# Altium schematic symbol library Infineon Transistor & Diode.SchLib: 376 symbols (part 5 of 10)
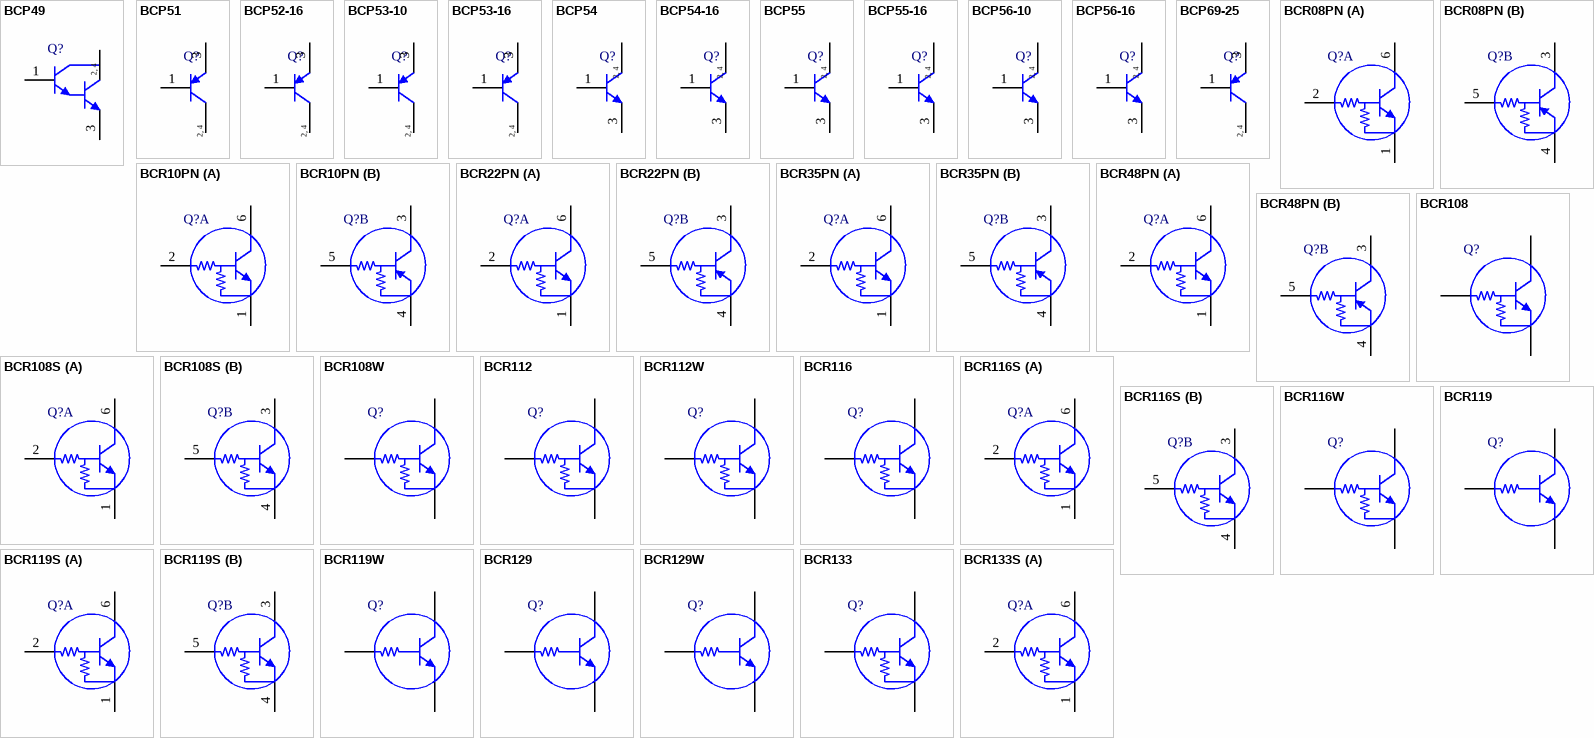
[diagram p14: symbols BCP49 to BCR133S]

## BCR22PN
designator Q?
NPN / PNP Silicon Digital Transistor Array, 50 V VCEO, 100 mA IC, SOT363, Reel, Green; Manufacturer: Infineon; PartNumber: BCR22PN; fT (typ): 130 MHz; Green: TRUE; hFE (min): 50; IC (max): 100 mA; ICBO (max): 100 nA; Ptot (max): 250 mW; R1 (typ): 22 kOhm; VCBO (max): 50 V; VEBO (max): 10 V; Vi (off) (max): 1.5 100uA / 5V; Vi (on) (max): 2.5 V; Vi (on) (min): 1 2mA / 0.3V; PackageReference: SOT363; PackageDescription: 6-Pin Small Outline Transistor Package, 1.25 x 2 mm Body; Supplier 1: Mouser; Supplier Part Number 1: N/A; Halogen-free: TRUE; Packing: Reel; Polarity: NPN/PNP; R2: 22 kOhm; VCEO (max): 50 V; Mounting Technology: Surface Mount; ComponentLink1Description: Manufacturer URL; ComponentLink1URL: http://www.infineon.com/; ComponentLink2Description: Datasheet; ComponentLink2URL: http://www.infineon.com/dgdl/bcr22pn.pdf?folderId=db3a30431428a37301144053a52002e2&fileId=db3a30431428a3730114406a036a02fe; ComponentLink3Description: Package Specification; ComponentLink3URL: http://www.infineon.com/dgdl/SOT363-Package_Overview.pdf?folderId=db3a30431936bc4b01195360bd8f3cdc&fileId=db3a30431936bc4b0119536b62bf3cf5
footprint INF-SOT363_V (SOT23, 6-Leads, Body 2x1.25 mm, Pitch 0.65 mm)
part A pins: 1 E1, 2 B1, 6 C1
part B pins: 3 C2, 4 E2, 5 B2

## BCR35PN
designator Q?
NPN / PNP Silicon Digital Transistor Array, 50 V VCEO, 100 mA IC, SOT363, Reel, Green; Manufacturer: Infineon; PartNumber: BCR35PN; fT (typ): 150 MHz; Green: TRUE; hFE (min): 70; IC (max): 100 mA; ICBO (max): 100 nA; Ptot (max): 250 mW; R1 (typ): 10 kOhm; R2: 47 kOhm; VCBO (max): 50 V; VEBO (max): 6 V; Vi (off) (max): 1 100uA / 5V; Vi (on) (max): 1.4 V; Vi (on) (min): 0.5 2mA / 0.3V; PackageReference: SOT363; PackageDescription: 6-Pin Small Outline Transistor Package, 1.25 x 2 mm Body; Supplier 1: Mouser; Supplier Part Number 1: N/A; Halogen-free: TRUE; Packing: Reel; Polarity: NPN/PNP; VCEO (max): 50 V; Mounting Technology: Surface Mount; ComponentLink1Description: Manufacturer URL; ComponentLink1URL: http://www.infineon.com/; ComponentLink2Description: Datasheet; ComponentLink2URL: http://www.infineon.com/dgdl/bcr35pn.pdf?folderId=db3a30431428a37301144053a52002e2&fileId=db3a30431428a3730114406b0def02ff; ComponentLink3Description: Package Specification; ComponentLink3URL: http://www.infineon.com/dgdl/SOT363-Package_Overview.pdf?folderId=db3a30431936bc4b01195360bd8f3cdc&fileId=db3a30431936bc4b0119536b62bf3cf5
footprint INF-SOT363_V (SOT23, 6-Leads, Body 2x1.25 mm, Pitch 0.65 mm)
part A pins: 1 E1, 2 B1, 6 C1
part B pins: 3 C2, 4 E2, 5 B2

## BCR48PN
designator Q?
NPN / PNP Silicon Digital Transistor Array, 50 V VCEO, 70 / 100 mA IC, SOT363, Reel, Green; Manufacturer: Infineon; PartNumber: BCR48PN; fT (typ): 100 MHz; Green: TRUE; hFE (min): 70; IC (max): 70 mA; 100 mA; ICBO (max): 100 nA; Ptot (max): 250 mW; R1 (typ): 47 kOhm; 2.2 kOhm; R2: 47 kOhm; 47 kOhm; VCBO (max): 50 V; VEBO (max): 10 V; 5 V; Vi (off) (max): 1.5 100uA / 5V; Vi (on) (max): 1.1 V; Vi (on) (min): 0.5 2mA / 0.3V; PackageReference: SOT363; PackageDescription: 6-Pin Small Outline Transistor Package, 1.25 x 2 mm Body; Supplier 1: Mouser; Supplier Part Number 1: N/A; Halogen-free: TRUE; Packing: Reel; Polarity: NPN/PNP; VCEO (max): 50 V; Mounting Technology: Surface Mount; ComponentLink1Description: Manufacturer URL; ComponentLink1URL: http://www.infineon.com/; ComponentLink2Description: Datasheet; ComponentLink2URL: http://www.infineon.com/dgdl/bcr48pn.pdf?folderId=db3a30431428a37301144053a52002e2&fileId=db3a30431428a3730114406c1ce60300; ComponentLink3Description: Package Specification; ComponentLink3URL: http://www.infineon.com/dgdl/SOT363-Package_Overview.pdf?folderId=db3a30431936bc4b01195360bd8f3cdc&fileId=db3a30431936bc4b0119536b62bf3cf5
footprint INF-SOT363_V (SOT23, 6-Leads, Body 2x1.25 mm, Pitch 0.65 mm)
part A pins: 1 E1, 2 B1, 6 C1
part B pins: 3 C2, 4 E2, 5 B2

## BCR108
designator Q?
NPN Silicon Digital Transistor, 50 V VCEO, 100 mA IC, SOT23, Reel, Green; Manufacturer: Infineon; PartNumber: BCR108; fT (typ): 170 MHz; Green: TRUE; hFE (min): 70; IC (max): 100 mA; ICBO (max): 100 nA; Ptot (max): 200 mW; R1 (typ): 2.2 kOhm; R2: 47 kOhm; VCBO (max): 50 V; VEBO (max): 5 V; Vi (off) (max): 0.8 100uA / 5V; Vi (on) (max): 1.1 V; Vi (on) (min): 0.5 2mA / 0.3V; PackageVersion: Apr-08; PackageReference: SOT23; PackageDescription: 3-Pin Small Outline Transistor Package, 1.3 x 2.9 mm Body, 0.95 mm Pitch; Supplier 1: Mouser; Supplier Part Number 1: N/A; Packing: Reel; Polarity: NPN; VCEO (max): 50 V; Mounting Technology: Surface Mount; ComponentLink1Description: Manufacturer URL; ComponentLink1URL: http://www.infineon.com/; ComponentLink2Description: Datasheet; ComponentLink2URL: http://www.infineon.com/dgdl/bcr108series.pdf?folderId=db3a30431400ef68011406f3ddb1012e&fileId=db3a30431428a37301143a27e5a401ce; ComponentLink3Description: Package Specification; ComponentLink3URL: http://www.infineon.com/dgdl/SOT23-Package_Overview.pdf?folderId=db3a30431936bc4b0119532290053c66&fileId=db3a30431936bc4b0119533468123c85
footprint INF-SOT23_N (SOT23, 3-Leads, Body 2.9x1.3 mm, Pitch 0.95 mm, IPC Medium Density)
footprint INF-SOT23_L (SOT23, 3-Leads, Body 2.9x1.3 mm, Pitch 0.95 mm, IPC High Density)
footprint INF-SOT23_M (SOT23, 3-Leads, Body 2.9x1.3 mm, Pitch 0.95 mm, IPC Low Density)
pins: 1 B, 2 E, 3 C

## BCR108S
designator Q?
NPN Silicon Digital Transistor, 50 V VCEO, 100 mA IC, SOT363, Reel, Green; Manufacturer: Infineon; PartNumber: BCR108S; fT (typ): 170 MHz; Green: TRUE; hFE (min): 70; IC (max): 100 mA; ICBO (max): 100 nA; Ptot (max): 250 mW; R1 (typ): 2.2 kOhm; R2: 47 kOhm; VCBO (max): 50 V; VEBO (max): 5 V; Vi (off) (max): 0.8 100uA / 5V; Vi (on) (max): 1.1 V; Vi (on) (min): 0.5 2mA / 0.3V; PackageReference: SOT363; PackageDescription: 6-Pin Small Outline Transistor Package, 1.25 x 2 mm Body; Supplier 1: Mouser; Supplier Part Number 1: N/A; Halogen-free: TRUE; Packing: Reel; Polarity: NPN; VCEO (max): 50 V; Mounting Technology: Surface Mount; ComponentLink1Description: Manufacturer URL; ComponentLink1URL: http://www.infineon.com/; ComponentLink2Description: Datasheet; ComponentLink2URL: http://www.infineon.com/dgdl/bcr108series.pdf?folderId=db3a30431428a37301144053a52002e2&fileId=db3a30431428a37301144054398602e5; ComponentLink3Description: Package Specification; ComponentLink3URL: http://www.infineon.com/dgdl/SOT363-Package_Overview.pdf?folderId=db3a30431936bc4b01195360bd8f3cdc&fileId=db3a30431936bc4b0119536b62bf3cf5
footprint INF-SOT363_V (SOT23, 6-Leads, Body 2x1.25 mm, Pitch 0.65 mm)
part A pins: 1 E1, 2 B1, 6 C1
part B pins: 3 C2, 4 E2, 5 B2

## BCR108W
designator Q?
NPN Silicon Digital Transistor, 50 V VCEO, 100 mA IC, SOT323, Reel, Green; Manufacturer: Infineon; PartNumber: BCR108W; fT (typ): 170 MHz; Green: TRUE; hFE (min): 70; IC (max): 100 mA; ICBO (max): 100 nA; Ptot (max): 250 mW; R1 (typ): 2.2 kOhm; R2: 47 kOhm; VCBO (max): 50 V; VEBO (max): 5 V; Vi (off) (max): 0.8 100uA / 5V; Vi (on) (max): 1.1 V; Vi (on) (min): 0.5 2mA / 0.3V; PackageReference: SOT323; PackageDescription: 3-Pin Small Outline Transistor Package, 1.25 x 2 mm Body, 0.65 mm Pitch; Supplier 1: Mouser; Supplier Part Number 1: N/A; Halogen-free: TRUE; Packing: Reel; Polarity: NPN; VCEO (max): 50 V; Mounting Technology: Surface Mount; ComponentLink1Description: Manufacturer URL; ComponentLink1URL: http://www.infineon.com/; ComponentLink2Description: Datasheet; ComponentLink2URL: http://www.infineon.com/dgdl/bcr108series.pdf?folderId=db3a30431400ef68011406f3ddb1012e&fileId=db3a30431428a37301143a27e5a401ce; ComponentLink3Description: Package Specification; ComponentLink3URL: http://www.infineon.com/dgdl/SOT323-Package_Overview.pdf?folderId=db3a30431936bc4b0119533e1dcb3c92&fileId=db3a30431936bc4b011953495f283cb1
footprint INF-SOT323_N (SOT23, 3-Leads, Body 2x1.25 mm, Pitch 0.65 mm, IPC Medium Density)
footprint INF-SOT323_L (SOT23, 3-Leads, Body 2x1.25 mm, Pitch 0.65 mm, IPC High Density)
footprint INF-SOT323_M (SOT23, 3-Leads, Body 2x1.25 mm, Pitch 0.65 mm, IPC Low Density)
pins: 1 B, 2 E, 3 C

## BCR112
designator Q?
NPN Silicon Digital Transistor, 50 V VCEO, 100 mA IC, SOT23, Reel, Green; Manufacturer: Infineon; PartNumber: BCR112; fT (typ): 140 MHz; Green: TRUE; hFE (min): 20; IC (max): 100 mA; ICBO (max): 100 nA; Ptot (max): 200 mW; R1 (typ): 4.7 kOhm; VCBO (max): 50 V; VEBO (max): 10 V; Vi (off) (max): 1.5 100uA / 5V; Vi (on) (max): 2.5 V; Vi (on) (min): 1 2mA / 0.3V; PackageVersion: Apr-08; PackageReference: SOT23; PackageDescription: 3-Pin Small Outline Transistor Package, 1.3 x 2.9 mm Body, 0.95 mm Pitch; Supplier 1: Mouser; Supplier Part Number 1: N/A; Packing: Reel; Polarity: NPN; R2: 4.7 kOhm; VCEO (max): 50 V; Mounting Technology: Surface Mount; ComponentLink1Description: Manufacturer URL; ComponentLink1URL: http://www.infineon.com/; ComponentLink2Description: Datasheet; ComponentLink2URL: http://www.infineon.com/dgdl/bcr112series.pdf?folderId=db3a30431400ef68011406f3ddb1012e&fileId=db3a30431428a37301143a34902e01d0; ComponentLink3Description: Package Specification; ComponentLink3URL: http://www.infineon.com/dgdl/SOT23-Package_Overview.pdf?folderId=db3a30431936bc4b0119532290053c66&fileId=db3a30431936bc4b0119533468123c85
footprint INF-SOT23_N (SOT23, 3-Leads, Body 2.9x1.3 mm, Pitch 0.95 mm, IPC Medium Density)
footprint INF-SOT23_L (SOT23, 3-Leads, Body 2.9x1.3 mm, Pitch 0.95 mm, IPC High Density)
footprint INF-SOT23_M (SOT23, 3-Leads, Body 2.9x1.3 mm, Pitch 0.95 mm, IPC Low Density)
pins: 1 B, 2 E, 3 C

## BCR112W
designator Q?
NPN Silicon Digital Transistor, 50 V VCEO, 100 mA IC, SOT323, Reel, Green; Manufacturer: Infineon; PartNumber: BCR112W; fT (typ): 140 MHz; Green: TRUE; hFE (min): 20; IC (max): 100 mA; ICBO (max): 100 nA; Ptot (max): 250 mW; R1 (typ): 4.7 kOhm; VCBO (max): 50 V; VEBO (max): 10 V; Vi (off) (max): 1.5 100uA / 5V; Vi (on) (max): 2.5 V; Vi (on) (min): 1 2mA / 0.3V; PackageReference: SOT323; PackageDescription: 3-Pin Small Outline Transistor Package, 1.25 x 2 mm Body, 0.65 mm Pitch; Supplier 1: Mouser; Supplier Part Number 1: N/A; Halogen-free: TRUE; Packing: Reel; Polarity: NPN; R2: 4.7 kOhm; VCEO (max): 50 V; Mounting Technology: Surface Mount; ComponentLink1Description: Manufacturer URL; ComponentLink1URL: http://www.infineon.com/; ComponentLink2Description: Datasheet; ComponentLink2URL: http://www.infineon.com/dgdl/bcr112series.pdf?folderId=db3a30431400ef68011406f3ddb1012e&fileId=db3a30431428a37301143a34902e01d0; ComponentLink3Description: Package Specification; ComponentLink3URL: http://www.infineon.com/dgdl/SOT323-Package_Overview.pdf?folderId=db3a30431936bc4b0119533e1dcb3c92&fileId=db3a30431936bc4b011953495f283cb1
footprint INF-SOT323_N (SOT23, 3-Leads, Body 2x1.25 mm, Pitch 0.65 mm, IPC Medium Density)
footprint INF-SOT323_L (SOT23, 3-Leads, Body 2x1.25 mm, Pitch 0.65 mm, IPC High Density)
footprint INF-SOT323_M (SOT23, 3-Leads, Body 2x1.25 mm, Pitch 0.65 mm, IPC Low Density)
pins: 1 B, 2 E, 3 C

## BCR116
designator Q?
NPN Silicon Digital Transistor, 50 V VCEO, 100 mA IC, SOT23, Reel, Green; Manufacturer: Infineon; PartNumber: BCR116; fT (typ): 150 MHz; Green: TRUE; hFE (min): 70; IC (max): 100 mA; ICBO (max): 100 nA; Ptot (max): 200 mW; R1 (typ): 4.7 kOhm; R2: 47 kOhm; VCBO (max): 50 V; VEBO (max): 5 V; Vi (off) (max): 0.8 100uA / 5V; Vi (on) (max): 1.4 V; Vi (on) (min): 0.5 2mA / 0.3V; PackageVersion: Apr-08; PackageReference: SOT23; PackageDescription: 3-Pin Small Outline Transistor Package, 1.3 x 2.9 mm Body, 0.95 mm Pitch; Supplier 1: Mouser; Supplier Part Number 1: N/A; Packing: Reel; Polarity: NPN; VCEO (max): 50 V; Mounting Technology: Surface Mount; ComponentLink1Description: Manufacturer URL; ComponentLink1URL: http://www.infineon.com/; ComponentLink2Description: Datasheet; ComponentLink2URL: http://www.infineon.com/dgdl/bcr116series.pdf?folderId=db3a30431400ef68011406f3ddb1012e&fileId=db3a30431428a37301143f60ae880285; ComponentLink3Description: Package Specification; ComponentLink3URL: http://www.infineon.com/dgdl/SOT23-Package_Overview.pdf?folderId=db3a30431936bc4b0119532290053c66&fileId=db3a30431936bc4b0119533468123c85
footprint INF-SOT23_N (SOT23, 3-Leads, Body 2.9x1.3 mm, Pitch 0.95 mm, IPC Medium Density)
footprint INF-SOT23_L (SOT23, 3-Leads, Body 2.9x1.3 mm, Pitch 0.95 mm, IPC High Density)
footprint INF-SOT23_M (SOT23, 3-Leads, Body 2.9x1.3 mm, Pitch 0.95 mm, IPC Low Density)
pins: 1 B, 2 E, 3 C

## BCR116S
designator Q?
NPN Silicon Digital Transistor, 50 V VCEO, 100 mA IC, SOT363, Reel, Green; Manufacturer: Infineon; PartNumber: BCR116S; fT (typ): 150 MHz; Green: TRUE; hFE (min): 70; IC (max): 100 mA; ICBO (max): 100 nA; Ptot (max): 250 mW; R1 (typ): 4.7 kOhm; R2: 47 kOhm; VCBO (max): 50 V; VEBO (max): 5 V; Vi (off) (max): 0.8 100uA / 5V; Vi (on) (max): 1.4 V; Vi (on) (min): 0.5 2mA / 0.3V; PackageReference: SOT363; PackageDescription: 6-Pin Small Outline Transistor Package, 1.25 x 2 mm Body; Supplier 1: Mouser; Supplier Part Number 1: N/A; Halogen-free: TRUE; Packing: Reel; Polarity: NPN; VCEO (max): 50 V; Mounting Technology: Surface Mount; ComponentLink1Description: Manufacturer URL; ComponentLink1URL: http://www.infineon.com/; ComponentLink2Description: Datasheet; ComponentLink2URL: http://www.infineon.com/dgdl/bcr116series.pdf?folderId=db3a30431428a37301144053a52002e2&fileId=db3a30431428a37301144055ee0602f0; ComponentLink3Description: Package Specification; ComponentLink3URL: http://www.infineon.com/dgdl/SOT363-Package_Overview.pdf?folderId=db3a30431936bc4b01195360bd8f3cdc&fileId=db3a30431936bc4b0119536b62bf3cf5
footprint INF-SOT363_V (SOT23, 6-Leads, Body 2x1.25 mm, Pitch 0.65 mm)
part A pins: 1 E1, 2 B1, 6 C1
part B pins: 3 C2, 4 E2, 5 B2

## BCR116W
designator Q?
NPN Silicon Digital Transistor, 50 V VCEO, 100 mA IC, SOT323, Reel, Green; Manufacturer: Infineon; PartNumber: BCR116W; fT (typ): 150 MHz; Green: TRUE; hFE (min): 70; IC (max): 100 mA; ICBO (max): 100 nA; Ptot (max): 250 mW; R1 (typ): 4.7 kOhm; R2: 47 kOhm; VCBO (max): 50 V; VEBO (max): 5 V; Vi (off) (max): 0.8 100uA / 5V; Vi (on) (max): 1.4 V; Vi (on) (min): 0.5 2mA / 0.3V; PackageReference: SOT323; PackageDescription: 3-Pin Small Outline Transistor Package, 1.25 x 2 mm Body, 0.65 mm Pitch; Supplier 1: Mouser; Supplier Part Number 1: N/A; Halogen-free: TRUE; Packing: Reel; Polarity: NPN; VCEO (max): 50 V; Mounting Technology: Surface Mount; ComponentLink1Description: Manufacturer URL; ComponentLink1URL: http://www.infineon.com/; ComponentLink2Description: Datasheet; ComponentLink2URL: http://www.infineon.com/dgdl/bcr116series.pdf?folderId=db3a30431400ef68011406f3ddb1012e&fileId=db3a30431428a37301143f60ae880285; ComponentLink3Description: Package Specification; ComponentLink3URL: http://www.infineon.com/dgdl/SOT323-Package_Overview.pdf?folderId=db3a30431936bc4b0119533e1dcb3c92&fileId=db3a30431936bc4b011953495f283cb1
footprint INF-SOT323_N (SOT23, 3-Leads, Body 2x1.25 mm, Pitch 0.65 mm, IPC Medium Density)
footprint INF-SOT323_L (SOT23, 3-Leads, Body 2x1.25 mm, Pitch 0.65 mm, IPC High Density)
footprint INF-SOT323_M (SOT23, 3-Leads, Body 2x1.25 mm, Pitch 0.65 mm, IPC Low Density)
pins: 1 B, 2 E, 3 C

## BCR119
designator Q?
NPN Silicon Digital Transistor, 50 V VCEO, 100 mA IC, SOT23, Reel, Green; Manufacturer: Infineon; PartNumber: BCR119; fT (typ): 150 MHz; Green: TRUE; hFE (min): 120; IC (max): 100 mA; ICBO (max): 100 nA; Ptot (max): 200 mW; R1 (typ): 4.7 kOhm; R2: 0 kOhm; VCBO (max): 50 V; VEBO (max): 5 V; Vi (off) (max): 0.8 100uA / 5V; Vi (on) (max): 1.1 V; Vi (on) (min): 0.5 2mA / 0.3V; PackageVersion: Apr-08; PackageReference: SOT23; PackageDescription: 3-Pin Small Outline Transistor Package, 1.3 x 2.9 mm Body, 0.95 mm Pitch; Packing: Reel; Polarity: NPN; VCEO (max): 50 V; Mounting Technology: Surface Mount; ComponentLink1Description: Manufacturer URL; ComponentLink1URL: http://www.infineon.com/; ComponentLink2Description: Datasheet; ComponentLink2URL: http://www.infineon.com/dgdl/bcr119series.pdf?folderId=db3a30431400ef68011406f3ddb1012e&fileId=db3a30431428a37301143f643b380286; ComponentLink3Description: Package Specification; ComponentLink3URL: http://www.infineon.com/dgdl/SOT23-Package_Overview.pdf?folderId=db3a30431936bc4b0119532290053c66&fileId=db3a30431936bc4b0119533468123c85
footprint INF-SOT23_N (SOT23, 3-Leads, Body 2.9x1.3 mm, Pitch 0.95 mm, IPC Medium Density)
footprint INF-SOT23_L (SOT23, 3-Leads, Body 2.9x1.3 mm, Pitch 0.95 mm, IPC High Density)
footprint INF-SOT23_M (SOT23, 3-Leads, Body 2.9x1.3 mm, Pitch 0.95 mm, IPC Low Density)
pins: 1 B, 2 E, 3 C

## BCR119S
designator Q?
NPN Silicon Digital Transistor, 50 V VCEO, 100 mA IC, SOT363, Reel, Green; Manufacturer: Infineon; PartNumber: BCR119S; fT (typ): 150 MHz; Green: TRUE; hFE (min): 120; IC (max): 100 mA; ICBO (max): 100 nA; Ptot (max): 250 mW; R1 (typ): 4.7 kOhm; R2: 0 kOhm; VCBO (max): 50 V; VEBO (max): 5 V; Vi (off) (max): 0.8 100uA / 5V; Vi (on) (max): 1.1 V; Vi (on) (min): 0.5 2mA / 0.3V; PackageReference: SOT363; PackageDescription: 6-Pin Small Outline Transistor Package, 1.25 x 2 mm Body; Supplier 1: Mouser; Supplier Part Number 1: N/A; Halogen-free: TRUE; Packing: Reel; Polarity: NPN; VCEO (max): 50 V; Mounting Technology: Surface Mount; ComponentLink1Description: Manufacturer URL; ComponentLink1URL: http://www.infineon.com/; ComponentLink2Description: Datasheet; ComponentLink2URL: http://www.infineon.com/dgdl/bcr119series.pdf?folderId=db3a30431428a37301144053a52002e2&fileId=db3a30431428a37301144057767402f3; ComponentLink3Description: Package Specification; ComponentLink3URL: http://www.infineon.com/dgdl/SOT363-Package_Overview.pdf?folderId=db3a30431936bc4b01195360bd8f3cdc&fileId=db3a30431936bc4b0119536b62bf3cf5
footprint INF-SOT363_V (SOT23, 6-Leads, Body 2x1.25 mm, Pitch 0.65 mm)
part A pins: 1 E1, 2 B1, 6 C1
part B pins: 3 C2, 4 E2, 5 B2

## BCR119W
designator Q?
NPN Silicon Digital Transistor, 50 V VCEO, 100 mA IC, SOT323, Reel, Green; Manufacturer: Infineon; PartNumber: BCR119W; fT (typ): 150 MHz; Green: TRUE; hFE (min): 120; IC (max): 100 mA; ICBO (max): 100 nA; Ptot (max): 250 mW; R1 (typ): 4.7 kOhm; R2: 0 kOhm; VCBO (max): 50 V; VEBO (max): 5 V; Vi (off) (max): 0.8 100uA / 5V; Vi (on) (max): 1.1 V; Vi (on) (min): 0.5 2mA / 0.3V; PackageReference: SOT323; PackageDescription: 3-Pin Small Outline Transistor Package, 1.25 x 2 mm Body, 0.65 mm Pitch; Supplier 1: Mouser; Supplier Part Number 1: N/A; Halogen-free: TRUE; Packing: Reel; Polarity: NPN; VCEO (max): 50 V; Mounting Technology: Surface Mount; ComponentLink1Description: Manufacturer URL; ComponentLink1URL: http://www.infineon.com/; ComponentLink2Description: Datasheet; ComponentLink2URL: http://www.infineon.com/dgdl/bcr119series.pdf?folderId=db3a30431400ef68011406f3ddb1012e&fileId=db3a30431428a37301143f643b380286; ComponentLink3Description: Package Specification; ComponentLink3URL: http://www.infineon.com/dgdl/SOT323-Package_Overview.pdf?folderId=db3a30431936bc4b0119533e1dcb3c92&fileId=db3a30431936bc4b011953495f283cb1
footprint INF-SOT323_N (SOT23, 3-Leads, Body 2x1.25 mm, Pitch 0.65 mm, IPC Medium Density)
footprint INF-SOT323_L (SOT23, 3-Leads, Body 2x1.25 mm, Pitch 0.65 mm, IPC High Density)
footprint INF-SOT323_M (SOT23, 3-Leads, Body 2x1.25 mm, Pitch 0.65 mm, IPC Low Density)
pins: 1 B, 2 E, 3 C

## BCR129
designator Q?
NPN Silicon Digital Transistor, 50 V VCEO, 100 mA IC, SOT23, Reel, Green; Manufacturer: Infineon; PartNumber: BCR129; fT (typ): 150 MHz; Green: TRUE; hFE (min): 120; IC (max): 100 mA; ICBO (max): 100 nA; Ptot (max): 200 mW; R1 (typ): 10 kOhm; VCBO (max): 50 V; VEBO (max): 5 V; Vi (off) (max): 1 100uA / 5V; Vi (on) (max): 1.1 V; Vi (on) (min): 0.5 2mA / 0.3V; PackageVersion: Apr-08; PackageReference: SOT23; PackageDescription: 3-Pin Small Outline Transistor Package, 1.3 x 2.9 mm Body, 0.95 mm Pitch; Supplier 1: Mouser; Supplier Part Number 1: N/A; Packing: Reel; Polarity: NPN; VCEO (max): 50 V; Mounting Technology: Surface Mount; ComponentLink1Description: Manufacturer URL; ComponentLink1URL: http://www.infineon.com/; ComponentLink2Description: Datasheet; ComponentLink2URL: http://www.infineon.com/dgdl/bcr129series.pdf?folderId=db3a30431400ef68011406f3ddb1012e&fileId=db3a30431428a37301143f7ab7820287; ComponentLink3Description: Package Specification; ComponentLink3URL: http://www.infineon.com/dgdl/SOT23-Package_Overview.pdf?folderId=db3a30431936bc4b0119532290053c66&fileId=db3a30431936bc4b0119533468123c85
footprint INF-SOT23_N (SOT23, 3-Leads, Body 2.9x1.3 mm, Pitch 0.95 mm, IPC Medium Density)
footprint INF-SOT23_L (SOT23, 3-Leads, Body 2.9x1.3 mm, Pitch 0.95 mm, IPC High Density)
footprint INF-SOT23_M (SOT23, 3-Leads, Body 2.9x1.3 mm, Pitch 0.95 mm, IPC Low Density)
pins: 1 B, 2 E, 3 C

## BCR129W
designator Q?
NPN Silicon Digital Transistor, 50 V VCEO, 100 mA IC, SOT323, Reel, Green; Manufacturer: Infineon; PartNumber: BCR129W; fT (typ): 150 MHz; Green: TRUE; hFE (min): 120; IC (max): 100 mA; ICBO (max): 100 nA; Ptot (max): 250 mW; R1 (typ): 10 kOhm; VCBO (max): 50 V; VEBO (max): 5 V; Vi (off) (max): 1 100uA / 5V; Vi (on) (max): 1.1 V; Vi (on) (min): 0.5 2mA / 0.3V; PackageReference: SOT323; PackageDescription: 3-Pin Small Outline Transistor Package, 1.25 x 2 mm Body, 0.65 mm Pitch; Supplier 1: Mouser; Supplier Part Number 1: N/A; Halogen-free: TRUE; Packing: Reel; Polarity: NPN; VCEO (max): 50 V; Mounting Technology: Surface Mount; ComponentLink1Description: Manufacturer URL; ComponentLink1URL: http://www.infineon.com/; ComponentLink2Description: Datasheet; ComponentLink2URL: http://www.infineon.com/dgdl/bcr129series.pdf?folderId=db3a30431400ef68011406f3ddb1012e&fileId=db3a30431428a37301143f7ab7820287; ComponentLink3Description: Package Specification; ComponentLink3URL: http://www.infineon.com/dgdl/SOT323-Package_Overview.pdf?folderId=db3a30431936bc4b0119533e1dcb3c92&fileId=db3a30431936bc4b011953495f283cb1
footprint INF-SOT323_N (SOT23, 3-Leads, Body 2x1.25 mm, Pitch 0.65 mm, IPC Medium Density)
footprint INF-SOT323_L (SOT23, 3-Leads, Body 2x1.25 mm, Pitch 0.65 mm, IPC High Density)
footprint INF-SOT323_M (SOT23, 3-Leads, Body 2x1.25 mm, Pitch 0.65 mm, IPC Low Density)
pins: 1 B, 2 E, 3 C

## BCR133
designator Q?
NPN Silicon Digital Transistor, 50 V VCEO, 100 mA IC, SOT23, Reel, Green; Manufacturer: Infineon; PartNumber: BCR133; fT (typ): 130 MHz; Green: TRUE; hFE (min): 30; IC (max): 100 mA; ICBO (max): 100 nA; Ptot (max): 200 mW; R1 (typ): 10 kOhm; VCBO (max): 50 V; VEBO (max): 10 V; Vi (off) (max): 1.5 100uA / 5V; Vi (on) (max): 2.5 V; Vi (on) (min): 1 2mA / 0.3V; PackageVersion: Apr-08; PackageReference: SOT23; PackageDescription: 3-Pin Small Outline Transistor Package, 1.3 x 2.9 mm Body, 0.95 mm Pitch; Packing: Reel; Polarity: NPN; R2: 10 kOhm; VCEO (max): 50 V; Mounting Technology: Surface Mount; ComponentLink1Description: Manufacturer URL; ComponentLink1URL: http://www.infineon.com/; ComponentLink2Description: Datasheet; ComponentLink2URL: http://www.infineon.com/dgdl/bcr133series.pdf?folderId=db3a30431400ef68011406f3ddb1012e&fileId=db3a30431428a37301143f7f8a3f0288; ComponentLink3Description: Package Specification; ComponentLink3URL: http://www.infineon.com/dgdl/SOT23-Package_Overview.pdf?folderId=db3a30431936bc4b0119532290053c66&fileId=db3a30431936bc4b0119533468123c85
footprint INF-SOT23_N (SOT23, 3-Leads, Body 2.9x1.3 mm, Pitch 0.95 mm, IPC Medium Density)
footprint INF-SOT23_L (SOT23, 3-Leads, Body 2.9x1.3 mm, Pitch 0.95 mm, IPC High Density)
footprint INF-SOT23_M (SOT23, 3-Leads, Body 2.9x1.3 mm, Pitch 0.95 mm, IPC Low Density)
pins: 1 B, 2 E, 3 C

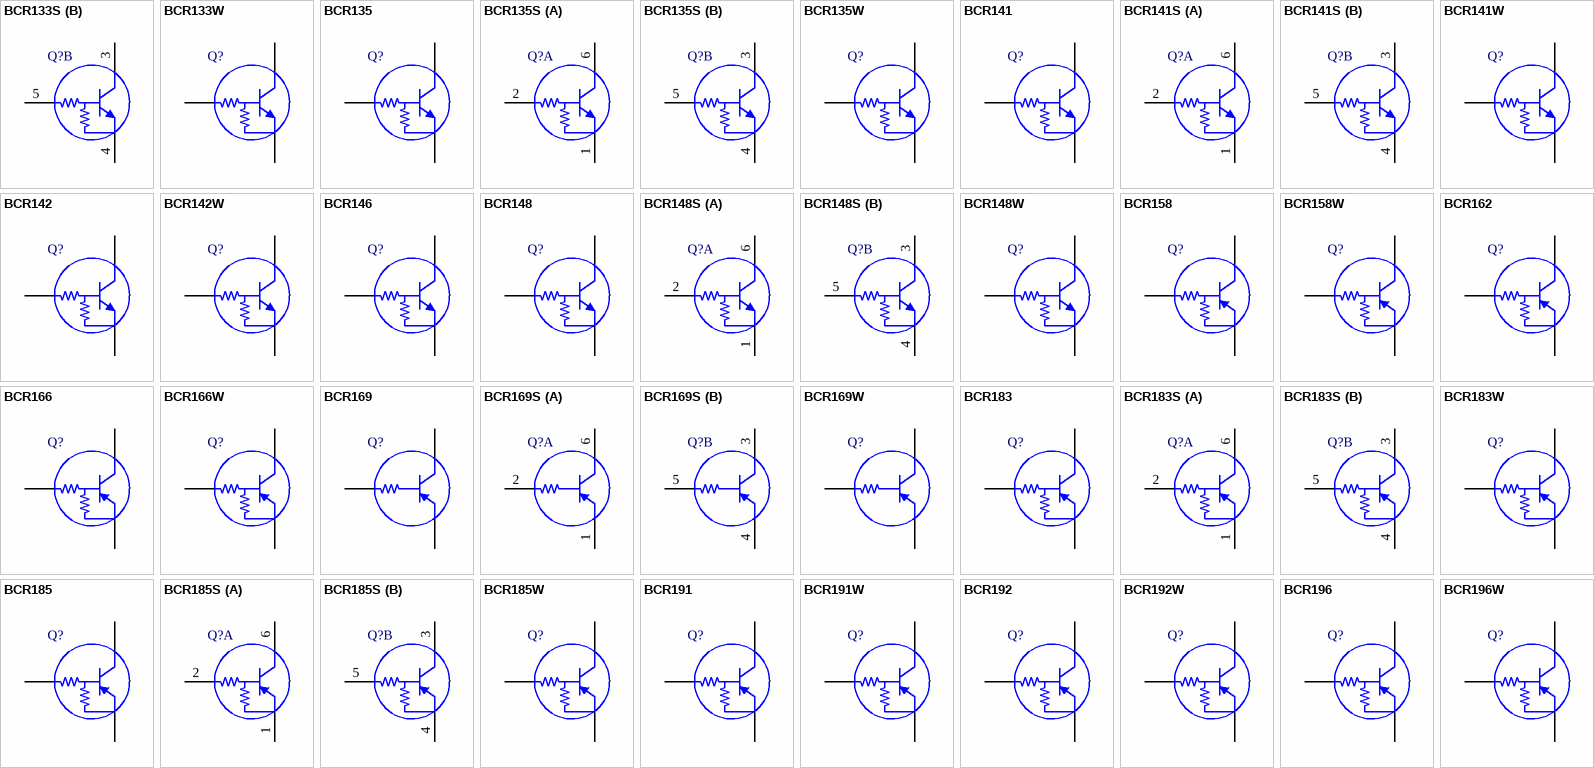
[diagram p5: symbols BCR133S to BCR196W]

## BCR133S
designator Q?
NPN Silicon Digital Transistor, 50 V VCEO, 100 mA IC, SOT363, Reel, Green; Manufacturer: Infineon; PartNumber: BCR133S; fT (typ): 130 MHz; Green: TRUE; hFE (min): 30; IC (max): 100 mA; ICBO (max): 100 nA; Ptot (max): 250 mW; R1 (typ): 10 kOhm; VCBO (max): 50 V; VEBO (max): 10 V; Vi (off) (max): 1.5 100uA / 5V; Vi (on) (max): 2.5 V; Vi (on) (min): 1 2mA / 0.3V; PackageReference: SOT363; PackageDescription: 6-Pin Small Outline Transistor Package, 1.25 x 2 mm Body; Supplier 1: Mouser; Supplier Part Number 1: N/A; Halogen-free: TRUE; Packing: Reel; Polarity: NPN; R2: 10 kOhm; VCEO (max): 50 V; Mounting Technology: Surface Mount; ComponentLink1Description: Manufacturer URL; ComponentLink1URL: http://www.infineon.com/; ComponentLink2Description: Datasheet; ComponentLink2URL: http://www.infineon.com/dgdl/bcr133series.pdf?folderId=db3a30431428a37301144053a52002e2&fileId=db3a30431428a3730114405b0e8502f5; ComponentLink3Description: Package Specification; ComponentLink3URL: http://www.infineon.com/dgdl/SOT363-Package_Overview.pdf?folderId=db3a30431936bc4b01195360bd8f3cdc&fileId=db3a30431936bc4b0119536b62bf3cf5
footprint INF-SOT363_V (SOT23, 6-Leads, Body 2x1.25 mm, Pitch 0.65 mm)
part A pins: 1 E1, 2 B1, 6 C1
part B pins: 3 C2, 4 E2, 5 B2

## BCR133W
designator Q?
NPN Silicon Digital Transistor, 50 V VCEO, 100 mA IC, SOT323, Reel, Green; Manufacturer: Infineon; PartNumber: BCR133W; fT (typ): 130 MHz; Green: TRUE; hFE (min): 30; IC (max): 100 mA; ICBO (max): 100 nA; Ptot (max): 250 mW; R1 (typ): 10 kOhm; VCBO (max): 50 V; VEBO (max): 10 V; Vi (off) (max): 1.5 100uA / 5V; Vi (on) (max): 2.5 V; Vi (on) (min): 1 2mA / 0.3V; PackageReference: SOT323; PackageDescription: 3-Pin Small Outline Transistor Package, 1.25 x 2 mm Body, 0.65 mm Pitch; Supplier 1: Mouser; Supplier Part Number 1: N/A; Halogen-free: TRUE; Packing: Reel; Polarity: NPN; R2: 10 kOhm; VCEO (max): 50 V; Mounting Technology: Surface Mount; ComponentLink1Description: Manufacturer URL; ComponentLink1URL: http://www.infineon.com/; ComponentLink2Description: Datasheet; ComponentLink2URL: http://www.infineon.com/dgdl/bcr133series.pdf?folderId=db3a30431400ef68011406f3ddb1012e&fileId=db3a30431428a37301143f7f8a3f0288; ComponentLink3Description: Package Specification; ComponentLink3URL: http://www.infineon.com/dgdl/SOT323-Package_Overview.pdf?folderId=db3a30431936bc4b0119533e1dcb3c92&fileId=db3a30431936bc4b011953495f283cb1
footprint INF-SOT323_N (SOT23, 3-Leads, Body 2x1.25 mm, Pitch 0.65 mm, IPC Medium Density)
footprint INF-SOT323_L (SOT23, 3-Leads, Body 2x1.25 mm, Pitch 0.65 mm, IPC High Density)
footprint INF-SOT323_M (SOT23, 3-Leads, Body 2x1.25 mm, Pitch 0.65 mm, IPC Low Density)
pins: 1 B, 2 E, 3 C

## BCR135
designator Q?
NPN Silicon Digital Transistor, 50 V VCEO, 100 mA IC, SOT23, Reel, Green; Manufacturer: Infineon; PartNumber: BCR135; fT (typ): 150 MHz; Green: TRUE; hFE (min): 70; IC (max): 100 mA; ICBO (max): 100 nA; Ptot (max): 200 mW; R1 (typ): 10 kOhm; R2: 47 kOhm; VCBO (max): 50 V; VEBO (max): 6 V; Vi (off) (max): 1 100uA / 5V; Vi (on) (max): 1.4 V; Vi (on) (min): 0.5 2mA / 0.3V; PackageVersion: Apr-08; PackageReference: SOT23; PackageDescription: 3-Pin Small Outline Transistor Package, 1.3 x 2.9 mm Body, 0.95 mm Pitch; Supplier 1: Mouser; Supplier Part Number 1: N/A; Packing: Reel; Polarity: NPN; VCEO (max): 50 V; Mounting Technology: Surface Mount; ComponentLink1Description: Manufacturer URL; ComponentLink1URL: http://www.infineon.com/; ComponentLink2Description: Datasheet; ComponentLink2URL: http://www.infineon.com/dgdl/bcr135series.pdf?folderId=db3a30431400ef68011406f3ddb1012e&fileId=db3a30431428a37301143f8b054a0289; ComponentLink3Description: Package Specification; ComponentLink3URL: http://www.infineon.com/dgdl/SOT23-Package_Overview.pdf?folderId=db3a30431936bc4b0119532290053c66&fileId=db3a30431936bc4b0119533468123c85
footprint INF-SOT23_N (SOT23, 3-Leads, Body 2.9x1.3 mm, Pitch 0.95 mm, IPC Medium Density)
footprint INF-SOT23_L (SOT23, 3-Leads, Body 2.9x1.3 mm, Pitch 0.95 mm, IPC High Density)
footprint INF-SOT23_M (SOT23, 3-Leads, Body 2.9x1.3 mm, Pitch 0.95 mm, IPC Low Density)
pins: 1 B, 2 E, 3 C

## BCR135S
designator Q?
NPN Silicon Digital Transistor, 50 V VCEO, 100 mA IC, SOT363, Reel, Green; Manufacturer: Infineon; PartNumber: BCR135S; fT (typ): 150 MHz; Green: TRUE; hFE (min): 70; IC (max): 100 mA; ICBO (max): 100 nA; Ptot (max): 250 mW; R1 (typ): 10 kOhm; R2: 47 kOhm; VCBO (max): 50 V; VEBO (max): 6 V; Vi (off) (max): 1 100uA / 5V; Vi (on) (max): 1.4 V; Vi (on) (min): 0.5 2mA / 0.3V; PackageReference: SOT363; PackageDescription: 6-Pin Small Outline Transistor Package, 1.25 x 2 mm Body; Supplier 1: Mouser; Supplier Part Number 1: N/A; Halogen-free: TRUE; Packing: Reel; Polarity: NPN; VCEO (max): 50 V; Mounting Technology: Surface Mount; ComponentLink1Description: Manufacturer URL; ComponentLink1URL: http://www.infineon.com/; ComponentLink2Description: Datasheet; ComponentLink2URL: http://www.infineon.com/dgdl/bcr135series.pdf?folderId=db3a30431428a37301144053a52002e2&fileId=db3a30431428a3730114405c474002f6; ComponentLink3Description: Package Specification; ComponentLink3URL: http://www.infineon.com/dgdl/SOT363-Package_Overview.pdf?folderId=db3a30431936bc4b01195360bd8f3cdc&fileId=db3a30431936bc4b0119536b62bf3cf5
footprint INF-SOT363_V (SOT23, 6-Leads, Body 2x1.25 mm, Pitch 0.65 mm)
part A pins: 1 E1, 2 B1, 6 C1
part B pins: 3 C2, 4 E2, 5 B2

## BCR135W
designator Q?
NPN Silicon Digital Transistor, 50 V VCEO, 100 mA IC, SOT323, Reel, Green; Manufacturer: Infineon; PartNumber: BCR135W; fT (typ): 150 MHz; Green: TRUE; hFE (min): 70; IC (max): 100 mA; ICBO (max): 100 nA; Ptot (max): 250 mW; R1 (typ): 10 kOhm; R2: 47 kOhm; VCBO (max): 50 V; VEBO (max): 6 V; Vi (off) (max): 1 100uA / 5V; Vi (on) (max): 1.4 V; Vi (on) (min): 0.5 2mA / 0.3V; PackageReference: SOT323; PackageDescription: 3-Pin Small Outline Transistor Package, 1.25 x 2 mm Body, 0.65 mm Pitch; Supplier 1: Mouser; Supplier Part Number 1: N/A; Halogen-free: TRUE; Packing: Reel; Polarity: NPN; VCEO (max): 50 V; Mounting Technology: Surface Mount; ComponentLink1Description: Manufacturer URL; ComponentLink1URL: http://www.infineon.com/; ComponentLink2Description: Datasheet; ComponentLink2URL: http://www.infineon.com/dgdl/bcr135series.pdf?folderId=db3a30431400ef68011406f3ddb1012e&fileId=db3a30431428a37301143f8b054a0289; ComponentLink3Description: Package Specification; ComponentLink3URL: http://www.infineon.com/dgdl/SOT323-Package_Overview.pdf?folderId=db3a30431936bc4b0119533e1dcb3c92&fileId=db3a30431936bc4b011953495f283cb1
footprint INF-SOT323_N (SOT23, 3-Leads, Body 2x1.25 mm, Pitch 0.65 mm, IPC Medium Density)
footprint INF-SOT323_L (SOT23, 3-Leads, Body 2x1.25 mm, Pitch 0.65 mm, IPC High Density)
footprint INF-SOT323_M (SOT23, 3-Leads, Body 2x1.25 mm, Pitch 0.65 mm, IPC Low Density)
pins: 1 B, 2 E, 3 C

## BCR141
designator Q?
NPN Silicon Digital Transistor, 50 V VCEO, 100 mA IC, SOT23, Reel, Green; Manufacturer: Infineon; PartNumber: BCR141; fT (typ): 130 MHz; Green: TRUE; hFE (min): 50; IC (max): 100 mA; ICBO (max): 100 nA; Ptot (max): 250 mW; R1 (typ): 22 kOhm; VCBO (max): 50 V; VEBO (max): 10 V; Vi (off) (max): 1.5 100uA / 5V; Vi (on) (max): 2.5 V; Vi (on) (min): 1 2mA / 0.3V; PackageVersion: Apr-08; PackageReference: SOT23; PackageDescription: 3-Pin Small Outline Transistor Package, 1.3 x 2.9 mm Body, 0.95 mm Pitch; Packing: Reel; Polarity: NPN; R2: 22 kOhm; VCEO (max): 50 V; Mounting Technology: Surface Mount; ComponentLink1Description: Manufacturer URL; ComponentLink1URL: http://www.infineon.com/; ComponentLink2Description: Datasheet; ComponentLink2URL: http://www.infineon.com/dgdl/bcr141series.pdf?folderId=db3a30431400ef68011406f3ddb1012e&fileId=db3a30431428a37301143fb361b10297; ComponentLink3Description: Package Specification; ComponentLink3URL: http://www.infineon.com/dgdl/SOT23-Package_Overview.pdf?folderId=db3a30431936bc4b0119532290053c66&fileId=db3a30431936bc4b0119533468123c85
footprint INF-SOT23_N (SOT23, 3-Leads, Body 2.9x1.3 mm, Pitch 0.95 mm, IPC Medium Density)
footprint INF-SOT23_L (SOT23, 3-Leads, Body 2.9x1.3 mm, Pitch 0.95 mm, IPC High Density)
footprint INF-SOT23_M (SOT23, 3-Leads, Body 2.9x1.3 mm, Pitch 0.95 mm, IPC Low Density)
pins: 1 B, 2 E, 3 C

## BCR141S
designator Q?
NPN Silicon Digital Transistor, 50 V VCEO, 100 mA IC, SOT363, Reel, Green; Manufacturer: Infineon; PartNumber: BCR141S; fT (typ): 130 MHz; Green: TRUE; hFE (min): 50; IC (max): 100 mA; ICBO (max): 100 nA; Ptot (max): 250 mW; R1 (typ): 22 kOhm; VCBO (max): 50 V; VEBO (max): 10 V; Vi (off) (max): 1.5 100uA / 5V; Vi (on) (max): 2.5 V; Vi (on) (min): 1 2mA / 0.3V; PackageReference: SOT363; PackageDescription: 6-Pin Small Outline Transistor Package, 1.25 x 2 mm Body; Supplier 1: Mouser; Supplier Part Number 1: N/A; Halogen-free: TRUE; Packing: Reel; Polarity: NPN; R2: 22 kOhm; VCEO (max): 50 V; Mounting Technology: Surface Mount; ComponentLink1Description: Manufacturer URL; ComponentLink1URL: http://www.infineon.com/; ComponentLink2Description: Datasheet; ComponentLink2URL: http://www.infineon.com/dgdl/bcr141series.pdf?folderId=db3a30431428a373011440535d4202e0&fileId=db3a30431428a373011440603bed02f7; ComponentLink3Description: Package Specification; ComponentLink3URL: http://www.infineon.com/dgdl/SOT363-Package_Overview.pdf?folderId=db3a30431936bc4b01195360bd8f3cdc&fileId=db3a30431936bc4b0119536b62bf3cf5
footprint INF-SOT363_V (SOT23, 6-Leads, Body 2x1.25 mm, Pitch 0.65 mm)
part A pins: 1 E1, 2 B1, 6 C1
part B pins: 3 C2, 4 E2, 5 B2

## BCR141W
designator Q?
NPN Silicon Digital Transistor, 50 V VCEO, 100 mA IC, SOT323, Reel, Green; Manufacturer: Infineon; PartNumber: BCR141W; fT (typ): 130 MHz; Green: TRUE; hFE (min): 50; IC (max): 100 mA; ICBO (max): 100 nA; Ptot (max): 250 mW; R1 (typ): 22 kOhm; VCBO (max): 50 V; VEBO (max): 10 V; Vi (off) (max): 1.5 100uA / 5V; Vi (on) (max): 2.5 V; Vi (on) (min): 1 2mA / 0.3V; PackageReference: SOT323; PackageDescription: 3-Pin Small Outline Transistor Package, 1.25 x 2 mm Body, 0.65 mm Pitch; Supplier 1: Mouser; Supplier Part Number 1: N/A; Halogen-free: TRUE; Packing: Reel; Polarity: NPN; R2: 22 kOhm; VCEO (max): 50 V; Mounting Technology: Surface Mount; ComponentLink1Description: Manufacturer URL; ComponentLink1URL: http://www.infineon.com/; ComponentLink2Description: Datasheet; ComponentLink2URL: http://www.infineon.com/dgdl/bcr141series.pdf?folderId=db3a30431400ef68011406f3ddb1012e&fileId=db3a30431428a37301143fb361b10297; ComponentLink3Description: Package Specification; ComponentLink3URL: http://www.infineon.com/dgdl/SOT323-Package_Overview.pdf?folderId=db3a30431936bc4b0119533e1dcb3c92&fileId=db3a30431936bc4b011953495f283cb1
footprint INF-SOT323_N (SOT23, 3-Leads, Body 2x1.25 mm, Pitch 0.65 mm, IPC Medium Density)
footprint INF-SOT323_L (SOT23, 3-Leads, Body 2x1.25 mm, Pitch 0.65 mm, IPC High Density)
footprint INF-SOT323_M (SOT23, 3-Leads, Body 2x1.25 mm, Pitch 0.65 mm, IPC Low Density)
pins: 1 B, 2 E, 3 C

## BCR142
designator Q?
NPN Silicon Digital Transistor, 50 V VCEO, 100 mA IC, SOT23, Reel, Green; Manufacturer: Infineon; PartNumber: BCR142; fT (typ): 150 MHz; Green: TRUE; hFE (min): 70; IC (max): 100 mA; ICBO (max): 100 nA; Ptot (max): 200 mW; R1 (typ): 22 kOhm; R2: 47 kOhm; VCBO (max): 50 V; VEBO (max): 10 V; Vi (off) (max): 1.2 100uA / 5V; Vi (on) (max): 2.5 V; Vi (on) (min): 0.8 2mA / 0.3V; PackageVersion: Apr-08; PackageReference: SOT23; PackageDescription: 3-Pin Small Outline Transistor Package, 1.3 x 2.9 mm Body, 0.95 mm Pitch; Supplier 1: Mouser; Supplier Part Number 1: N/A; Packing: Reel; Polarity: NPN; VCEO (max): 50 V; Mounting Technology: Surface Mount; ComponentLink1Description: Manufacturer URL; ComponentLink1URL: http://www.infineon.com/; ComponentLink2Description: Datasheet; ComponentLink2URL: http://www.infineon.com/dgdl/bcr142series.pdf?folderId=db3a30431400ef68011406f3ddb1012e&fileId=db3a30431428a3730114400b292302b6; ComponentLink3Description: Package Specification; ComponentLink3URL: http://www.infineon.com/dgdl/SOT23-Package_Overview.pdf?folderId=db3a30431936bc4b0119532290053c66&fileId=db3a30431936bc4b0119533468123c85
footprint INF-SOT23_N (SOT23, 3-Leads, Body 2.9x1.3 mm, Pitch 0.95 mm, IPC Medium Density)
footprint INF-SOT23_L (SOT23, 3-Leads, Body 2.9x1.3 mm, Pitch 0.95 mm, IPC High Density)
footprint INF-SOT23_M (SOT23, 3-Leads, Body 2.9x1.3 mm, Pitch 0.95 mm, IPC Low Density)
pins: 1 B, 2 E, 3 C

## BCR142W
designator Q?
NPN Silicon Digital Transistor, 50 V VCEO, 100 mA IC, SOT323, Reel, Green; Manufacturer: Infineon; PartNumber: BCR142W; fT (typ): 150 MHz; Green: TRUE; hFE (min): 70; IC (max): 100 mA; ICBO (max): 100 nA; Ptot (max): 250 mW; R1 (typ): 22 kOhm; R2: 47 kOhm; VCBO (max): 50 V; VEBO (max): 10 V; Vi (off) (max): 1.2 100uA / 5V; Vi (on) (max): 2.5 V; Vi (on) (min): 0.8 2mA / 0.3V; PackageReference: SOT323; PackageDescription: 3-Pin Small Outline Transistor Package, 1.25 x 2 mm Body, 0.65 mm Pitch; Supplier 1: Mouser; Supplier Part Number 1: N/A; Halogen-free: TRUE; Packing: Reel; Polarity: NPN; VCEO (max): 50 V; Mounting Technology: Surface Mount; ComponentLink1Description: Manufacturer URL; ComponentLink1URL: http://www.infineon.com/; ComponentLink2Description: Datasheet; ComponentLink2URL: http://www.infineon.com/dgdl/bcr142series.pdf?folderId=db3a30431400ef68011406f3ddb1012e&fileId=db3a30431428a3730114400b292302b6; ComponentLink3Description: Package Specification; ComponentLink3URL: http://www.infineon.com/dgdl/SOT323-Package_Overview.pdf?folderId=db3a30431936bc4b0119533e1dcb3c92&fileId=db3a30431936bc4b011953495f283cb1
footprint INF-SOT323_N (SOT23, 3-Leads, Body 2x1.25 mm, Pitch 0.65 mm, IPC Medium Density)
footprint INF-SOT323_L (SOT23, 3-Leads, Body 2x1.25 mm, Pitch 0.65 mm, IPC High Density)
footprint INF-SOT323_M (SOT23, 3-Leads, Body 2x1.25 mm, Pitch 0.65 mm, IPC Low Density)
pins: 1 B, 2 E, 3 C

## BCR146
designator Q?
NPN Silicon Digital Transistor, 50 V VCEO, 70 mA IC, SOT23, Reel, Green; Manufacturer: Infineon; PartNumber: BCR146; fT (typ): 150 MHz; Green: TRUE; hFE (min): 50; IC (max): 70 mA; ICBO (max): 100 nA; Ptot (max): 200 mW; R1 (typ): 47 kOhm; R2: 22 kOhm; VCBO (max): 50 V; VEBO (max): 10 V; Vi (off) (max): 2.6 100uA / 5V; Vi (on) (max): 4 V; Vi (on) (min): 1.5 2mA / 0.3V; PackageVersion: Apr-08; PackageReference: SOT23; PackageDescription: 3-Pin Small Outline Transistor Package, 1.3 x 2.9 mm Body, 0.95 mm Pitch; Supplier 1: Mouser; Supplier Part Number 1: N/A; Packing: Reel; Polarity: NPN; VCEO (max): 50 V; Mounting Technology: Surface Mount; ComponentLink1Description: Manufacturer URL; ComponentLink1URL: http://www.infineon.com/; ComponentLink2Description: Datasheet; ComponentLink2URL: http://www.infineon.com/dgdl/bcr146.pdf?folderId=db3a30431400ef68011406f3ddb1012e&fileId=db3a30431428a373011440120c6802b7; ComponentLink3Description: Package Specification; ComponentLink3URL: http://www.infineon.com/dgdl/SOT23-Package_Overview.pdf?folderId=db3a30431936bc4b0119532290053c66&fileId=db3a30431936bc4b0119533468123c85
footprint INF-SOT23_N (SOT23, 3-Leads, Body 2.9x1.3 mm, Pitch 0.95 mm, IPC Medium Density)
footprint INF-SOT23_L (SOT23, 3-Leads, Body 2.9x1.3 mm, Pitch 0.95 mm, IPC High Density)
footprint INF-SOT23_M (SOT23, 3-Leads, Body 2.9x1.3 mm, Pitch 0.95 mm, IPC Low Density)
pins: 1 B, 2 E, 3 C

## BCR148
designator Q?
NPN Silicon Digital Transistor, 50 V VCEO, 100 mA IC, SOT23, Reel, Green; Manufacturer: Infineon; PartNumber: BCR148; fT (typ): 100 MHz; Green: TRUE; hFE (min): 70; IC (max): 100 mA; ICBO (max): 100 nA; Ptot (max): 200 mW; R1 (typ): 47 kOhm; VCBO (max): 50 V; VEBO (max): 10 V; Vi (off) (max): 1.5 100uA / 5V; Vi (on) (max): 3 V; Vi (on) (min): 1 2mA / 0.3V; PackageVersion: Apr-08; PackageReference: SOT23; PackageDescription: 3-Pin Small Outline Transistor Package, 1.3 x 2.9 mm Body, 0.95 mm Pitch; Packing: Reel; Polarity: NPN; R2: 47 kOhm; VCEO (max): 50 V; Mounting Technology: Surface Mount; ComponentLink1Description: Manufacturer URL; ComponentLink1URL: http://www.infineon.com/; ComponentLink2Description: Datasheet; ComponentLink2URL: http://www.infineon.com/dgdl/bcr148series.pdf?folderId=db3a30431400ef68011406f3ddb1012e&fileId=db3a30431428a373011440144ad602b8; ComponentLink3Description: Package Specification; ComponentLink3URL: http://www.infineon.com/dgdl/SOT23-Package_Overview.pdf?folderId=db3a30431936bc4b0119532290053c66&fileId=db3a30431936bc4b0119533468123c85
footprint INF-SOT23_N (SOT23, 3-Leads, Body 2.9x1.3 mm, Pitch 0.95 mm, IPC Medium Density)
footprint INF-SOT23_L (SOT23, 3-Leads, Body 2.9x1.3 mm, Pitch 0.95 mm, IPC High Density)
footprint INF-SOT23_M (SOT23, 3-Leads, Body 2.9x1.3 mm, Pitch 0.95 mm, IPC Low Density)
pins: 1 B, 2 E, 3 C

## BCR148S
designator Q?
NPN Silicon Digital Transistor, 50 V VCEO, 100 mA IC, SOT363, Reel, Green; Manufacturer: Infineon; PartNumber: BCR148S; fT (typ): 100 MHz; Green: TRUE; hFE (min): 70; IC (max): 100 mA; ICBO (max): 100 nA; Ptot (max): 250 mW; R1 (typ): 47 kOhm; VCBO (max): 50 V; VEBO (max): 10 V; Vi (off) (max): 1.5 100uA / 5V; Vi (on) (max): 3 V; Vi (on) (min): 1 2mA / 0.3V; PackageReference: SOT363; PackageDescription: 6-Pin Small Outline Transistor Package, 1.25 x 2 mm Body; Supplier 1: Mouser; Supplier Part Number 1: N/A; Halogen-free: TRUE; Packing: Reel; Polarity: NPN; R2: 47 kOhm; VCEO (max): 50 V; Mounting Technology: Surface Mount; ComponentLink1Description: Manufacturer URL; ComponentLink1URL: http://www.infineon.com/; ComponentLink2Description: Datasheet; ComponentLink2URL: http://www.infineon.com/dgdl/bcr148series.pdf?folderId=db3a30431428a37301144053a52002e2&fileId=db3a30431428a37301144061dfbb02f8; ComponentLink3Description: Package Specification; ComponentLink3URL: http://www.infineon.com/dgdl/SOT363-Package_Overview.pdf?folderId=db3a30431936bc4b01195360bd8f3cdc&fileId=db3a30431936bc4b0119536b62bf3cf5
footprint INF-SOT363_V (SOT23, 6-Leads, Body 2x1.25 mm, Pitch 0.65 mm)
part A pins: 1 E1, 2 B1, 6 C1
part B pins: 3 C2, 4 E2, 5 B2

## BCR148W
designator Q?
NPN Silicon Digital Transistor, 50 V VCEO, 100 mA IC, SOT323, Reel, Green; Manufacturer: Infineon; PartNumber: BCR148W; fT (typ): 100 MHz; Green: TRUE; hFE (min): 70; IC (max): 100 mA; ICBO (max): 100 nA; Ptot (max): 250 mW; R1 (typ): 47 kOhm; VCBO (max): 50 V; VEBO (max): 10 V; Vi (off) (max): 1.5 100uA / 5V; Vi (on) (max): 3 V; Vi (on) (min): 1 2mA / 0.3V; PackageReference: SOT323; PackageDescription: 3-Pin Small Outline Transistor Package, 1.25 x 2 mm Body, 0.65 mm Pitch; Supplier 1: Mouser; Supplier Part Number 1: N/A; Halogen-free: TRUE; Packing: Reel; Polarity: NPN; R2: 47 kOhm; VCEO (max): 50 V; Mounting Technology: Surface Mount; ComponentLink1Description: Manufacturer URL; ComponentLink1URL: http://www.infineon.com/; ComponentLink2Description: Datasheet; ComponentLink2URL: http://www.infineon.com/dgdl/bcr148series.pdf?folderId=db3a30431400ef68011406f3ddb1012e&fileId=db3a30431428a373011440144ad602b8; ComponentLink3Description: Package Specification; ComponentLink3URL: http://www.infineon.com/dgdl/SOT323-Package_Overview.pdf?folderId=db3a30431936bc4b0119533e1dcb3c92&fileId=db3a30431936bc4b011953495f283cb1
footprint INF-SOT323_N (SOT23, 3-Leads, Body 2x1.25 mm, Pitch 0.65 mm, IPC Medium Density)
footprint INF-SOT323_L (SOT23, 3-Leads, Body 2x1.25 mm, Pitch 0.65 mm, IPC High Density)
footprint INF-SOT323_M (SOT23, 3-Leads, Body 2x1.25 mm, Pitch 0.65 mm, IPC Low Density)
pins: 1 B, 2 E, 3 C

## BCR158
designator Q?
PNP Silicon Digital Transistor, 50 V VCEO, 100 mA IC, SOT23, Reel, Green; Manufacturer: Infineon; PartNumber: BCR158; fT (typ): 200 MHz; Green: TRUE; hFE (min): 70; IC (max): 100 mA; ICBO (max): 100 nA; Ptot (max): 200 mW; R1 (typ): 2.2 kOhm; R2: 47 kOhm; VCBO (max): 50 V; VEBO (max): 5 V; Vi (off) (max): 0.8 100uA / 5V; Vi (on) (max): 1.1 V; Vi (on) (min): 0.5 2mA / 0.3V; PackageVersion: Apr-08; PackageReference: SOT23; PackageDescription: 3-Pin Small Outline Transistor Package, 1.3 x 2.9 mm Body, 0.95 mm Pitch; Supplier 1: Mouser; Supplier Part Number 1: N/A; Packing: Reel; Polarity: PNP; VCEO (max): 50 V; Mounting Technology: Surface Mount; ComponentLink1Description: Manufacturer URL; ComponentLink1URL: http://www.infineon.com/; ComponentLink2Description: Datasheet; ComponentLink2URL: http://www.infineon.com/dgdl/bcr158series.pdf?folderId=db3a30431400ef68011406f3ddb1012e&fileId=db3a30431428a37301144022a59b02cc; ComponentLink3Description: Package Specification; ComponentLink3URL: http://www.infineon.com/dgdl/SOT23-Package_Overview.pdf?folderId=db3a30431936bc4b0119532290053c66&fileId=db3a30431936bc4b0119533468123c85
footprint INF-SOT23_N (SOT23, 3-Leads, Body 2.9x1.3 mm, Pitch 0.95 mm, IPC Medium Density)
footprint INF-SOT23_L (SOT23, 3-Leads, Body 2.9x1.3 mm, Pitch 0.95 mm, IPC High Density)
footprint INF-SOT23_M (SOT23, 3-Leads, Body 2.9x1.3 mm, Pitch 0.95 mm, IPC Low Density)
pins: 1 B, 2 E, 3 C

## BCR158W
designator Q?
PNP Silicon Digital Transistor, 50 V VCEO, 100 mA IC, SOT323, Reel, Green; Manufacturer: Infineon; PartNumber: BCR158W; fT (typ): 200 MHz; Green: TRUE; hFE (min): 70; IC (max): 100 mA; ICBO (max): 100 nA; Ptot (max): 250 mW; R1 (typ): 2.2 kOhm; R2: 47 kOhm; VCBO (max): 50 V; VEBO (max): 5 V; Vi (off) (max): 0.8 100uA / 5V; Vi (on) (max): 1.1 V; Vi (on) (min): 0.5 2mA / 0.3V; PackageReference: SOT323; PackageDescription: 3-Pin Small Outline Transistor Package, 1.25 x 2 mm Body, 0.65 mm Pitch; Supplier 1: Mouser; Supplier Part Number 1: N/A; Halogen-free: TRUE; Packing: Reel; Polarity: PNP; VCEO (max): 50 V; Mounting Technology: Surface Mount; ComponentLink1Description: Manufacturer URL; ComponentLink1URL: http://www.infineon.com/; ComponentLink2Description: Datasheet; ComponentLink2URL: http://www.infineon.com/dgdl/bcr158series.pdf?folderId=db3a30431400ef68011406f3ddb1012e&fileId=db3a30431428a37301144022a59b02cc; ComponentLink3Description: Package Specification; ComponentLink3URL: http://www.infineon.com/dgdl/SOT323-Package_Overview.pdf?folderId=db3a30431936bc4b0119533e1dcb3c92&fileId=db3a30431936bc4b011953495f283cb1
footprint INF-SOT323_N (SOT23, 3-Leads, Body 2x1.25 mm, Pitch 0.65 mm, IPC Medium Density)
footprint INF-SOT323_L (SOT23, 3-Leads, Body 2x1.25 mm, Pitch 0.65 mm, IPC High Density)
footprint INF-SOT323_M (SOT23, 3-Leads, Body 2x1.25 mm, Pitch 0.65 mm, IPC Low Density)
pins: 1 B, 2 E, 3 C

## BCR162
designator Q?
PNP Silicon Digital Transistor, 50 V VCEO, 100 mA IC, SOT23, Reel, Green; Manufacturer: Infineon; PartNumber: BCR162; fT (typ): 200 MHz; Green: TRUE; hFE (min): 20; IC (max): 100 mA; ICBO (max): 100 nA; Ptot (max): 200 mW; R1 (typ): 4.7 kOhm; VCBO (max): 50 V; VEBO (max): 10 V; Vi (off) (max): 1.5 100uA / 5V; Vi (on) (max): 2.5 V; Vi (on) (min): 1 2mA / 0.3V; PackageVersion: Apr-08; PackageReference: SOT23; PackageDescription: 3-Pin Small Outline Transistor Package, 1.3 x 2.9 mm Body, 0.95 mm Pitch; Supplier 1: Mouser; Supplier Part Number 1: N/A; Packing: Reel; Polarity: PNP; R2: 4.7 kOhm; VCEO (max): 50 V; Mounting Technology: Surface Mount; ComponentLink1Description: Manufacturer URL; ComponentLink1URL: http://www.infineon.com/; ComponentLink2Description: Datasheet; ComponentLink2URL: http://www.infineon.com/dgdl/bcr162.pdf?folderId=db3a30431400ef68011406f3ddb1012e&fileId=db3a30431428a3730114402b1a4b02cf; ComponentLink3Description: Package Specification; ComponentLink3URL: http://www.infineon.com/dgdl/SOT23-Package_Overview.pdf?folderId=db3a30431936bc4b0119532290053c66&fileId=db3a30431936bc4b0119533468123c85
footprint INF-SOT23_N (SOT23, 3-Leads, Body 2.9x1.3 mm, Pitch 0.95 mm, IPC Medium Density)
footprint INF-SOT23_L (SOT23, 3-Leads, Body 2.9x1.3 mm, Pitch 0.95 mm, IPC High Density)
footprint INF-SOT23_M (SOT23, 3-Leads, Body 2.9x1.3 mm, Pitch 0.95 mm, IPC Low Density)
pins: 1 B, 2 E, 3 C

## BCR166
designator Q?
PNP Silicon Digital Transistor, 50 V VCEO, 100 mA IC, SOT23, Reel, Green; Manufacturer: Infineon; PartNumber: BCR166; fT (typ): 160 MHz; Green: TRUE; hFE (min): 70; IC (max): 100 mA; ICBO (max): 100 nA; Ptot (max): 200 mW; R1 (typ): 4.7 kOhm; R2: 47 kOhm; VCBO (max): 50 V; VEBO (max): 5 V; Vi (off) (max): 0.8 100uA / 5V; Vi (on) (max): 1.4 V; Vi (on) (min): 0.5 2mA / 0.3V; PackageVersion: Apr-08; PackageReference: SOT23; PackageDescription: 3-Pin Small Outline Transistor Package, 1.3 x 2.9 mm Body, 0.95 mm Pitch; Supplier 1: Mouser; Supplier Part Number 1: N/A; Packing: Reel; Polarity: PNP; VCEO (max): 50 V; Mounting Technology: Surface Mount; ComponentLink1Description: Manufacturer URL; ComponentLink1URL: http://www.infineon.com/; ComponentLink2Description: Datasheet; ComponentLink2URL: http://www.infineon.com/dgdl/bcr166series.pdf?folderId=db3a30431400ef68011406f3ddb1012e&fileId=db3a30431428a3730114402db36002d0; ComponentLink3Description: Package Specification; ComponentLink3URL: http://www.infineon.com/dgdl/SOT23-Package_Overview.pdf?folderId=db3a30431936bc4b0119532290053c66&fileId=db3a30431936bc4b0119533468123c85
footprint INF-SOT23_N (SOT23, 3-Leads, Body 2.9x1.3 mm, Pitch 0.95 mm, IPC Medium Density)
footprint INF-SOT23_L (SOT23, 3-Leads, Body 2.9x1.3 mm, Pitch 0.95 mm, IPC High Density)
footprint INF-SOT23_M (SOT23, 3-Leads, Body 2.9x1.3 mm, Pitch 0.95 mm, IPC Low Density)
pins: 1 B, 2 E, 3 C